# EAGLE library part NE182UEEP6AMP (library NE182UEEP6AMP)
Pushbutton Switch DPDT Standard Through Hole, Right Angle, 250 V Source: Datasheet <https://www.littelfuse.com/assetdocs/littelfuse-c-k-pushbutton-ne18-series-datasheet?assetguid=eaa0cce0-0711-4a80-a25e-fa5683c64f06>
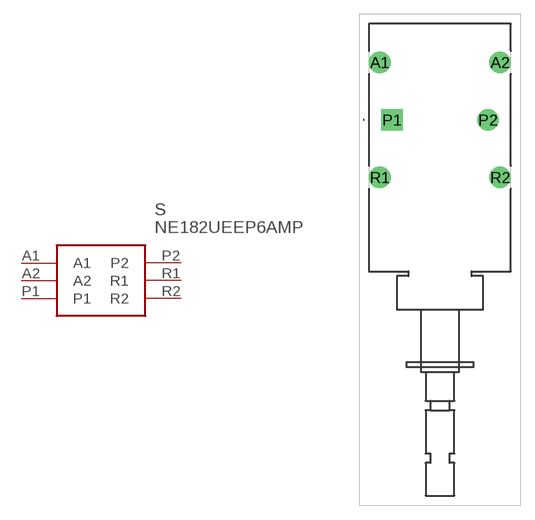
[diagram p0: symbol with the pads of NE182UEEP6AMP; footprint NE182UEEP6AMP]

Designator prefix S

## NE182UEEP6AMP (Description: Pushbutton Switch DPDT Standard Through Hole, Right Angle, 250 V; Height: 14.4mm; Manufacturer_Name: LITTELFUSE; Manufacturer_Part_Number: NE182UEEP6AMP; Mouser_Part_Number: 611-NE182UEEP6AMP; Mouser_Price-Stock: https://www.mouser.co.uk/ProductDetail/CK/NE182UEEP6AMP?qs=u2NJ%252B70r0go80sgN5CJXfg%3D%3D)  [NE182UEEP6AMP]
A1  A1
A2  A2
P1  P1
P2  P2
R1  R1
R2  R2

## Footprint NE182UEEP6AMP (pad centres in mm)
NE182UEEP6AMP-8
drill 1.5 pad 2.25: A1 -1.275,6; A2 11.275,6; P2 10,0; R1 -1.275,-6; R2 11.275,-6
drill 1.5 pad 2.25 square: P1 0,0